# Altium schematic symbol library Blinkinlabs.SchLib: 259 symbols (part 3 of 3)
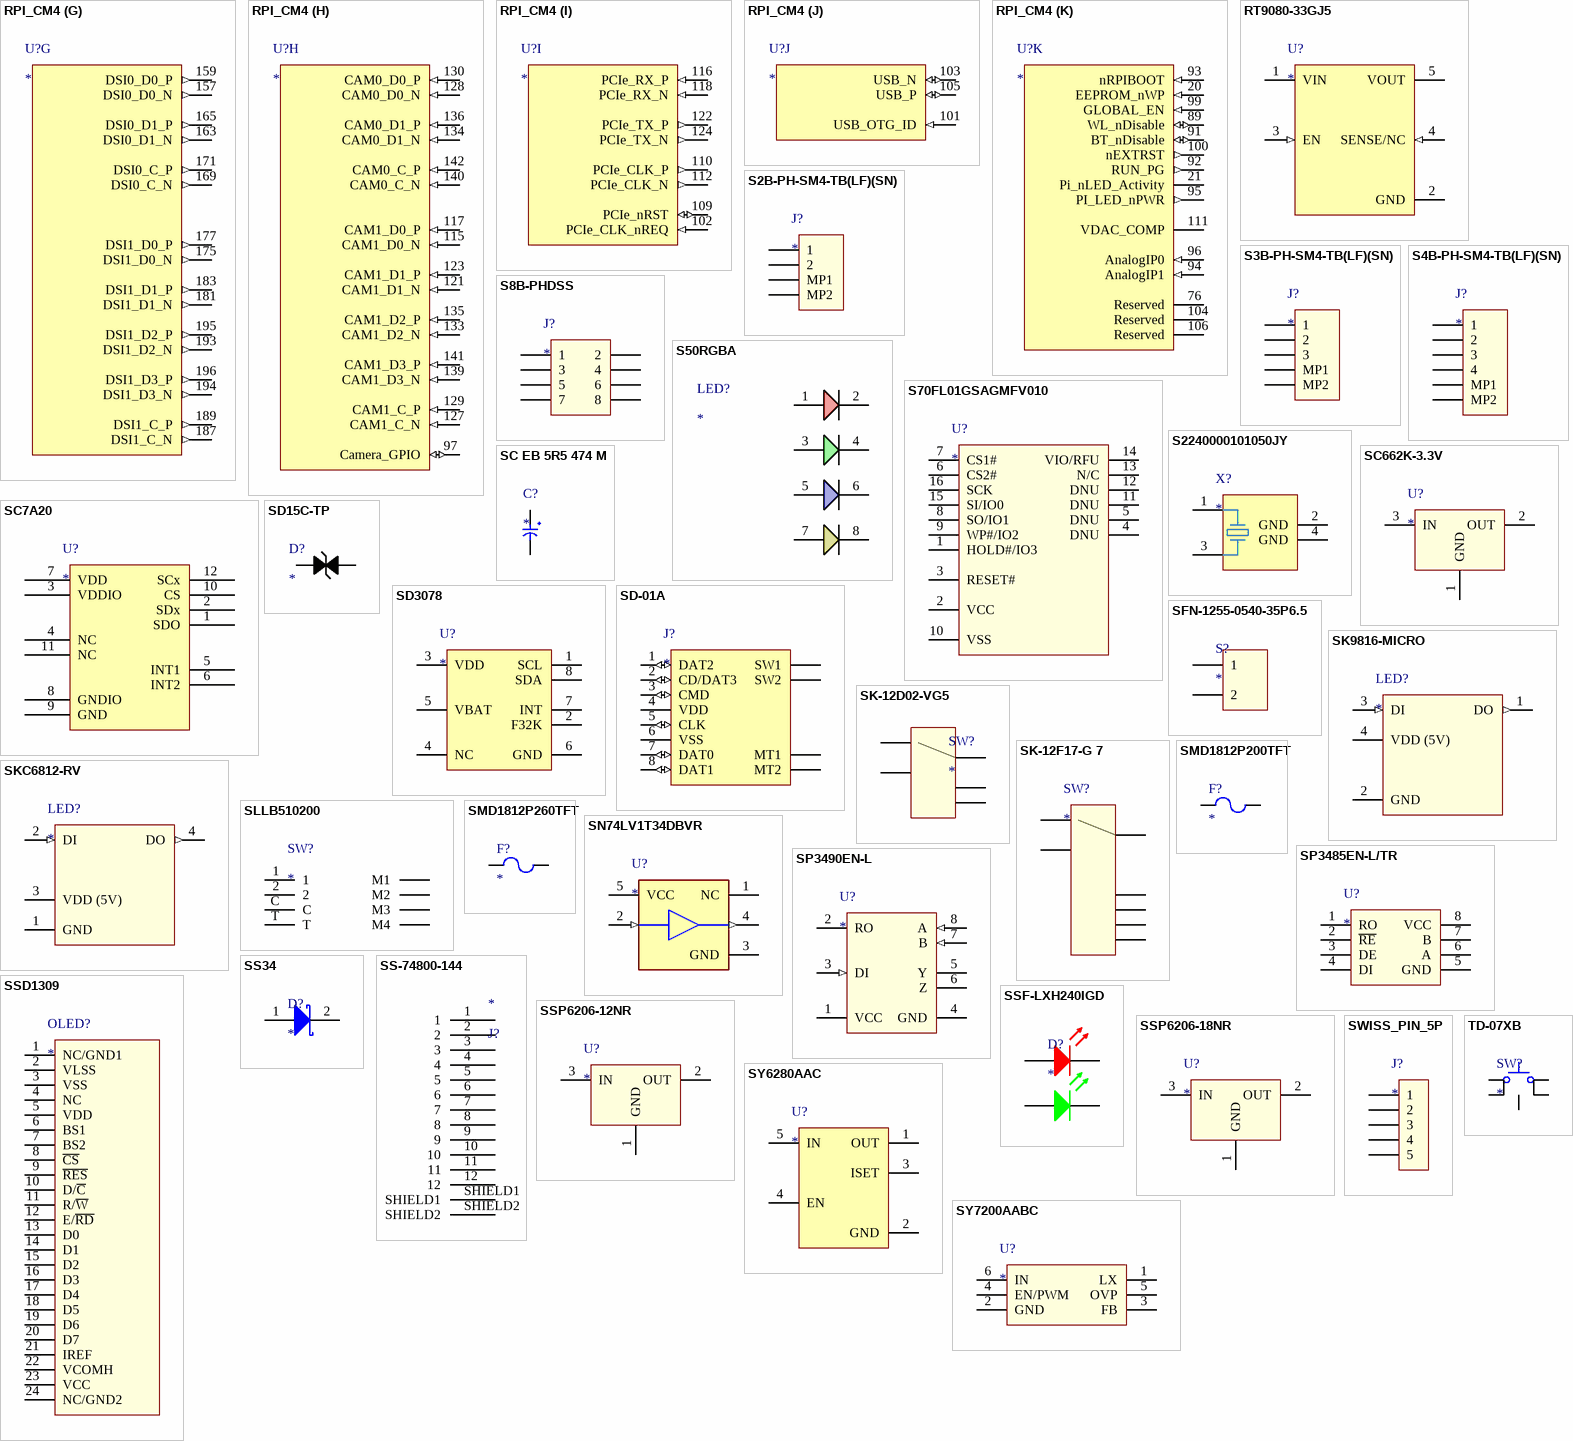
[diagram p11: symbols RPI_CM4 to TD-07XB]

## SP3490EN-L
designator U?
+3.3V Low Power Full-Duplex RS-485 Transceivers with 10Mbps Data Rate; Manufacturer: Exar; PartNumber: SP3490EN-L
footprint SOIC127P600X175-8N-2 (SOIC, 8-Leads, Body 4.90x3.90mm, Pitch 1.27mm, IPC Medium Density)
pins: 1 VCC, 2 RO, 3 DI (in), 4 GND, 5 Y, 6 Z, 7 B (in), 8 A (in)

## SS34
designator D?
3A, 40V Surface Mount Schottky Barrier Rectifiers; Manufacturer: Taiwan Semiconductor; PartNumber: SS34H; ComponentLink2Description: Datasheet; ComponentLink2URL: SS32 SERIES_L15.pdf
footprint SMC (DO-214AB)
pins: 1, 2

## SS-74800-144
designator *, comment J?
footprint SS-74800-144
pins: 1, 2, 3, 4, 5, 6, 7, 8, 9, 10, 11, 12, SHIELD1, SHIELD2

## SSD1309
designator OLED?
2.4" OLED display, 24-pin connector, SSD1309 driver IC
pins: 1 NC/GND1 (power), 2 VLSS, 3 VSS, 4 NC, 5 VDD, 6 BS1, 7 BS2, 8 ~{CS}, 9 ~{RES}, 10 D/~{C}, 11 R/~{W}, 12 E/~{RD}, 13 D0, 14 D1, 15 D2, 16 D3, 17 D4, 18 D5, 19 D6, 20 D7, 21 IREF, 22 VCOMH, 23 VCC, 24 NC/GND2

## SSF-LXH240IGD
designator D?
LED Circuit Board Indicator 2 High Green (x 1), Red (x 1) Diffused, Tinted 2.2V Green, 2V Red 25mA Green, 30mA Red; PartNumber: SSF-LXH240IGD; Manufacturer: Lumex Opto/Components Inc.; Digikey PartNumber: 67-2201-ND
footprint SSF-LXH240IGD (PCB DUAL TWR LED IND, RED/GREEN)
pins: 1, 2, 3, 4

## SSP6206-12NR
designator U?
300mA Low Power LDO; Manufacturer: Shanghai Siproin Microelectronics Co.; PartNumber: SSP6206-12NR
footprint SOT95P230X117-3N (SOT23, 3-Leads, Body 2.90x2.30mm, Pitch 0.95mm, IPC Medium Density)
pins: 1 GND (power), 2 OUT (power), 3 IN (power)

## SSP6206-18NR
designator U?
300mA Low Power LDO; Manufacturer: Shanghai Siproin Microelectronics Co.; PartNumber: SSP6206-18NR
footprint SOT95P230X117-3N (SOT23, 3-Leads, Body 2.90x2.30mm, Pitch 0.95mm, IPC Medium Density)
pins: 1 GND (power), 2 OUT (power), 3 IN (power)

## SWISS_PIN_5P
designator J?
.1" header with round machined pins; Manufacturer: Unknown/Generic; PartNumber: Unknown/Generic
footprint SWISS_PIN_5P
pins: 1, 2, 3, 4, 5

## SY6280AAC
designator U?
Low Loss Power Distribution Switch; Manufacturer: Silergy Corp; PartNumber: SY6280AAC; LCSC PartNumber: C55136
footprint SOT95P285X130-5N (SOT23, 5-Leads, Body 2.95x2.85mm, Pitch 0.95mm, IPC Medium Density)
pins: 1 OUT, 2 GND, 3 ISET, 4 EN, 5 IN

## SY7200AABC
designator U?
30V High Current Boost LED Driver; Manufacturer: Silergy Corp; PartNumber: SY7200AABC
footprint SOT95P280X140-6N (SOT23, 6-Leads, Body 2.95x2.80mm, Pitch 0.95mm, IPC Medium Density)
pins: 1 LX, 2 GND, 3 FB, 4 EN/PWM, 5 OVP, 6 IN

## TD-07XB
designator SW?
Tact Switch; Manufacturer: ShenZhen XieJia Electronics Co Ltd; PartNumber: TD-07XB
footprint TD-07XB (TACT SWITCH)
pins: 1, 2, 3, 4, 5

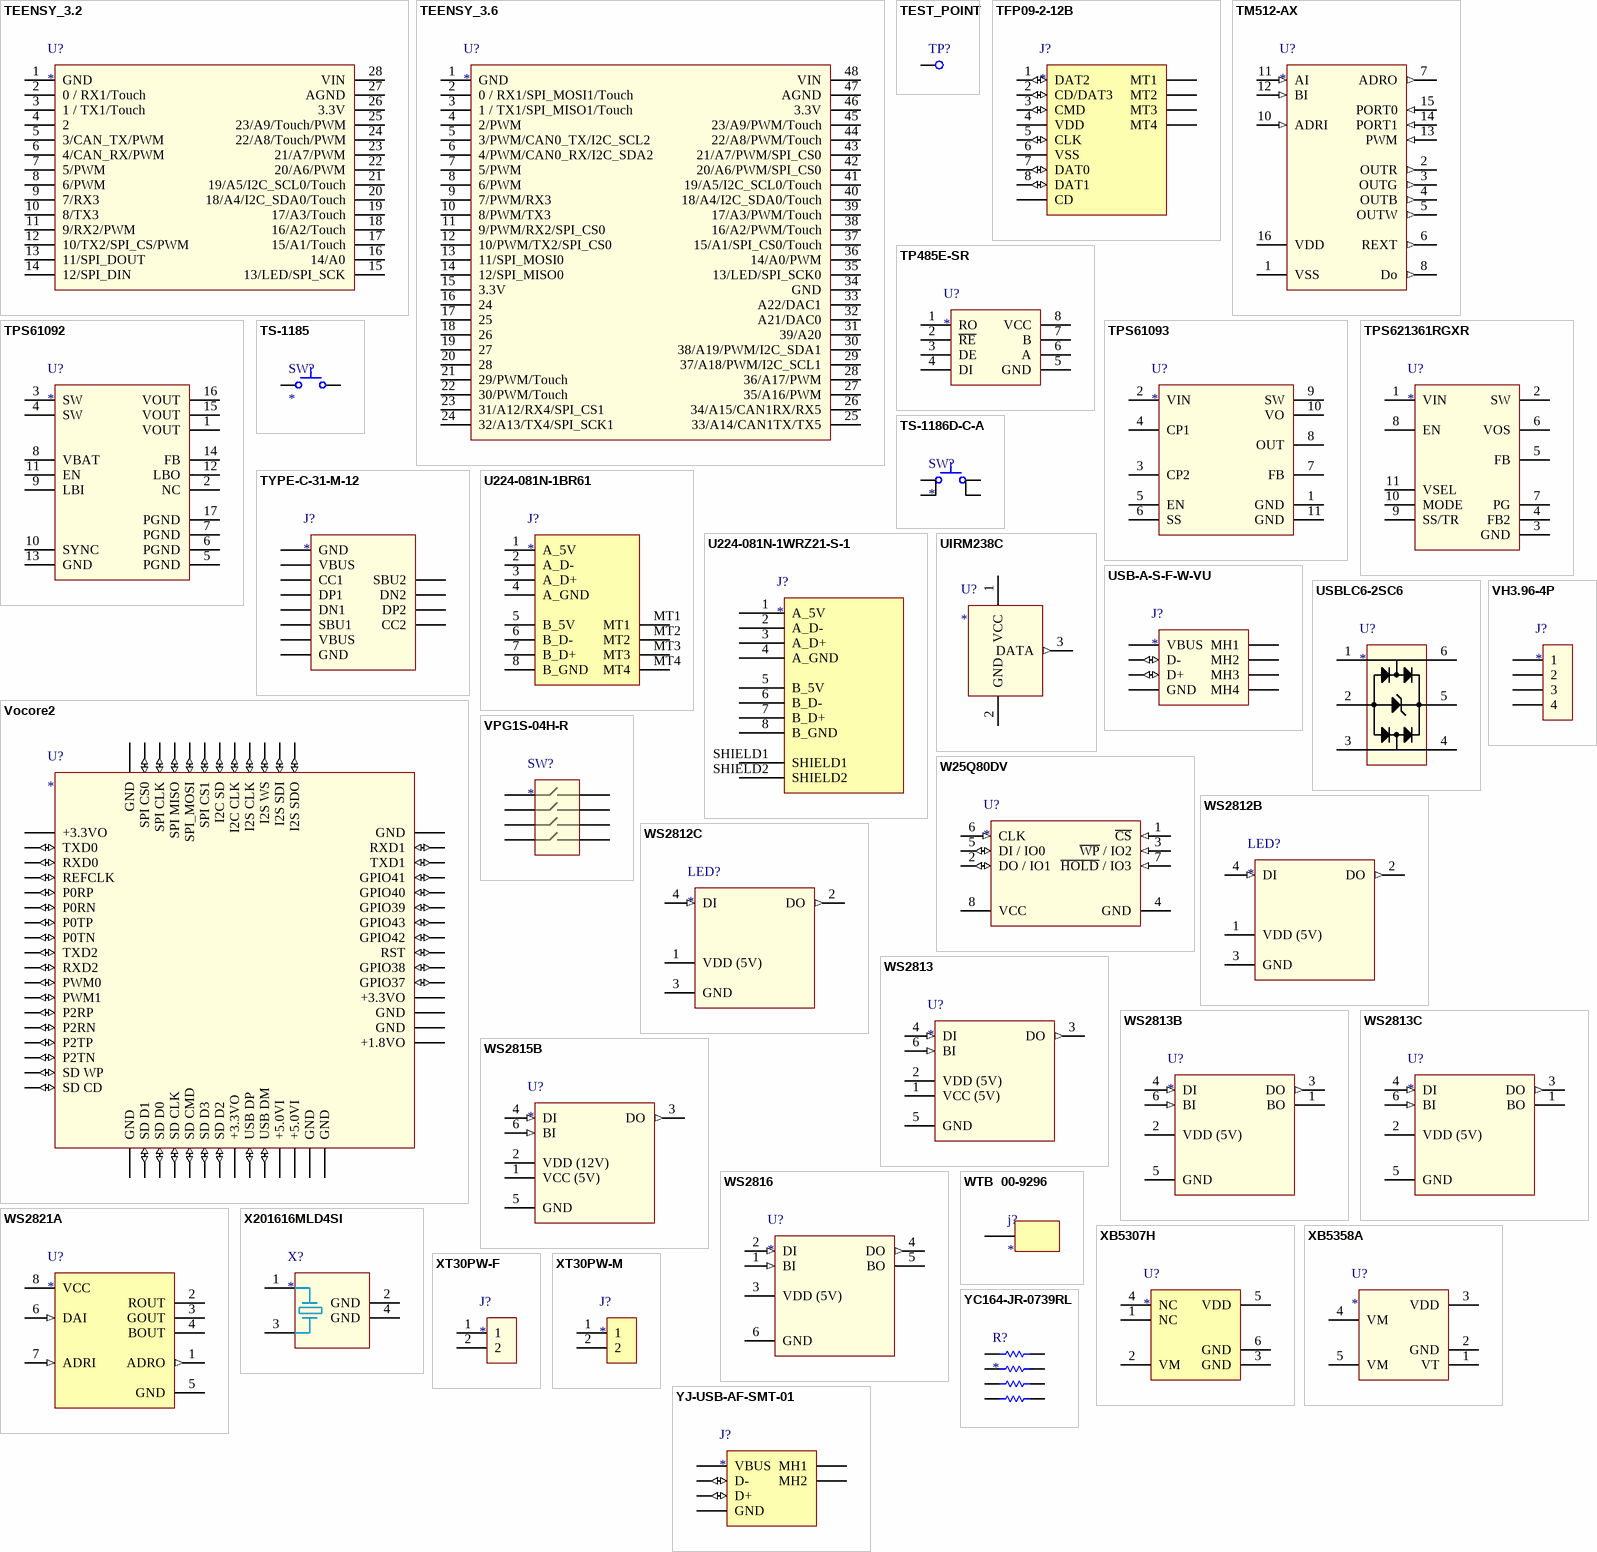
[diagram p9: symbols TEENSY_3.2 to YJ-USB-AF-SMT-01]

## TEENSY_3.2
designator U?
Teensy 3.2; Manufacturer: PJRC; PartNumber: TEENSY32
footprint TEENSY3.2_SMD (Teensy 3.2 header using SMD pins)
footprint TEENSY3.2-THRU_HOLE (Teensy 3.2 header using thru-hole pins)
pins: 1 GND (power), 2 0 / RX1/Touch, 3 1 / TX1/Touch, 4 2, 5 3/CAN_TX/PWM, 6 4/CAN_RX/PWM, 7 5/PWM, 8 6/PWM, 9 7/RX3, 10 8/TX3, 11 9/RX2/PWM, 12 10/TX2/SPI_CS/PWM, 13 11/SPI_DOUT, 14 12/SPI_DIN, 15 13/LED/SPI_SCK, 16 14/A0, 17 15/A1/Touch, 18 16/A2/Touch, 19 17/A3/Touch, 20 18/A4/I2C_SDA0/Touch, 21 19/A5/I2C_SCL0/Touch, 22 20/A6/PWM, 23 21/A7/PWM, 24 22/A8/Touch/PWM, 25 23/A9/Touch/PWM, 26 3.3V "250mA max", 27 AGND, 28 VIN "3.6 - 6V"

## TEENSY_3.6
designator U?
Teensy 3.6; Manufacturer: PJRC; PartNumber: TEENSY36
footprint TEENSY3.6-THRU_HOLE
pins: 1 GND (power), 2 0 / RX1/SPI_MOSI1/Touch, 3 1 / TX1/SPI_MISO1/Touch, 4 2/PWM, 5 3/PWM/CAN0_TX/I2C_SCL2, 6 4/PWM/CAN0_RX/I2C_SDA2, 7 5/PWM, 8 6/PWM, 9 7/PWM/RX3, 10 8/PWM/TX3, 11 9/PWM/RX2/SPI_CS0, 12 10/PWM/TX2/SPI_CS0, 13 11/SPI_MOSI0, 14 12/SPI_MISO0, 15 3.3V, 16 24, 17 25, 18 26, 19 27, 20 28, 21 29/PWM/Touch, 22 30/PWM/Touch, 23 31/A12/RX4/SPI_CS1, 24 32/A13/TX4/SPI_SCK1, 25 33/A14/CAN1TX/TX5, 26 34/A15/CAN1RX/RX5, 27 35/A16/PWM, 28 36/A17/PWM, 29 37/A18/PWM/I2C_SCL1, 30 38/A19/PWM/I2C_SDA1, 31 39/A20, 32 A21/DAC0, 33 A22/DAC1, 34 GND, 35 13/LED/SPI_SCK0, 36 14/A0/PWM, 37 15/A1/SPI_CS0/Touch, 38 16/A2/PWM/Touch, 39 17/A3/PWM/Touch, 40 18/A4/I2C_SDA0/Touch, 41 19/A5/I2C_SCL0/Touch, 42 20/A6/PWM/SPI_CS0, 43 21/A7/PWM/SPI_CS0, 44 22/A8/PWM/Touch, 45 23/A9/PWM/Touch, 46 3.3V "250mA max", 47 AGND, 48 VIN "3.6 - 6V"

## TEST_POINT
designator TP?  (value not drawn)  (no BOM)
Test point
footprint TP-SMD-1mm (Test point, round, 1mm, SMD)
pins: 1 TP

## TFP09-2-12B
designator J?
Micro SD Card Connector; Manufacturer: Unknown/Generic; PartNumber: TFP09-2-12B
footprint TFP09-2-12B (Micro SD Card Connector)
pins: 1 DAT2 (io), 2 CD/DAT3 (io), 3 CMD (io), 4 VDD (power), 5 CLK (io), 6 VSS (power), 7 DAT0 (io), 8 DAT1 (io), CD, MT1, MT2, MT3, MT4

## TM512-AX
designator U?
DMX512 decoding and driver IC; Manufacturer: Shenzhen Titan Micro Electronics Co; PartNumber: TM512-AX; ComponentLink2Description: Datasheet; ComponentLink2URL: TM512-AX.pdf
footprint SOIC127P600X170-16N (SOIC, 16-Leads, Body 9.13x3.95mm, Pitch 1.27mm, IPC Medium Density)
pins: 1 VSS (power) "Power negative", 2 OUTR (out) "PWM output port", 3 OUTG (out) "PWM output port", 4 OUTB (out) "PWM output port", 5 OUTW (out) "PWM output port", 6 REXT (out) "Constant current feedback, the ground resistance to adjust the output current size", 7 ADRO (out) "Address write code output", 8 Do (out) "Decoding forwarding channel, can control our 18 series and 19 series IC", 10 ADRI (in) "Address write code line input, built-in pull-up", 11 AI (in) "Difference signal, positive", 12 BI (in) "Difference signal, negative", 13 PWM (in) "Output polarity selection, the general floating, then the output after the polarity phase  Reverse, while the port refresh rate down to 500Hz", 14 PORT1 (in) "Field selection, built-in pull-down", 15 PORT0 (in) "Field selection, built-in pull-down", 16 VDD (power) "Power positive"

## TP485E-SR
designator U?
±18K  ESD  Protection,  Bus-Polarity  Correcting  RS-485  Transceiver, 250 kbps; Manufacturer: 3PEAK  INCORPORATED; PartNumber: TP485E-SR
footprint SOIC127P600X155-8N (Footprint not found)
pins: 1 RO, 2 ~{RE}, 3 DE, 4 DI, 5 GND, 6 A, 7 B, 8 VCC

## TPS61092
designator U?
Synchronous Boost Converter With 2-A Switch, fixed 5V output; Manufacturer: Texas Instruments; PartNumber: TPS61092; ComponentLink2Description: Datasheet; ComponentLink2URL: tps61090.pdf
footprint QFN65P400X400X100_HS-17N (QFN, 16-Leads, Body 4.00x4.00mm, Pitch 0.65mm, Thermal Pad 2.70x2.70mm, IPC Medium Density)
pins: 1 VOUT, 2 NC, 3 SW, 4 SW, 5 PGND, 6 PGND, 7 PGND, 8 VBAT, 9 LBI, 10 SYNC, 11 EN, 12 LBO, 13 GND, 14 FB, 15 VOUT, 16 VOUT, 17 PGND

## TPS61093
designator U?
3 Low-Input Boost Converter With Integrated Power Diode and / Input/Output Isolation; Manufacturer: Texas Instruments; PartNumber: TPS61093; ComponentLink2Description: Datasheet; ComponentLink2URL: tps61093.pdf
footprint SON50P250X80_HS-11N (SON, 10-Leads, Body 2.50x2.50mm, Pitch 0.50mm, Thermal Pad 2.00x1.09mm, IPC Medium Density)
pins: 1 GND, 2 VIN, 3 CP2, 4 CP1, 5 EN, 6 SS, 7 FB, 8 OUT, 9 SW, 10 VO, 11 GND

## TPS621361RGXR
designator U?
IC REG BUCK ADJUSTABLE 4A 11VQFN; Manufacturer: Texas Instruments; PartNumber: TPS621361RGXR; Digikey PartNumber: 296-50117-2-ND
footprint RGX0011A
pins: 1 VIN, 2 SW, 3 GND, 4 FB2, 5 FB, 6 VOS, 7 PG, 8 EN, 9 SS/TR, 10 MODE, 11 VSEL

## TS-1185
designator SW?
Tact Switch, 3x4mm, no alignment pin, turtle style; PartNumber: TS-1185; Manufacturer: XKB
footprint TS-1185 (3x4x2mm Tact Switch, no alignment pin)
pins: 1, 2

## TS-1186D-C-A
designator SW?
Tact Switch, side actuated; Manufacturer: XKB Industrial Precision Co; PartNumber: TS-1186D-C-A
footprint TS-1186D-C-A (Tact Switch, side actuated)
pins: 1, 2, 3, 4

## TYPE-C-31-M-12
designator J?
USB Connector TYPE-C-31-M-12 Female 16P SMD; Manufacturer: HRO; PartNumber: TYPE-C-31-M-12
footprint TYPE-C-31-M-12 (USB Connector TYPE-C-31-M-12 Female 16P SMD)
pins: A1/B12 GND, A4/B9 VBUS, A5 CC1, A6 DP1, A7 DN1, A8 SBU1, A9/B4 VBUS, A12/B1 GND, B5 CC2, B6 DP2, B7 DN2, B8 SBU2

## U224-081N-1BR61
designator J?
USB 2.0 2 Shrouded 4+4 Female Type-A Plugin USB Connectors; Manufacturer: XKB; PartNumber: U224-081N-1BR61; LCSC PartNumber: C908455
footprint U224-081N-1BR61 (USB 2.0 2 Shrouded 4+4 Female Type-A Plugin USB Connectors)
pins: 1 A_5V, 2 A_D-, 3 A_D+, 4 A_GND, 5 B_5V, 6 B_D-, 7 B_D+, 8 B_GND, MT1, MT2, MT3, MT4

## U224-081N-1WRZ21-S-1
designator J?
Manufacturer: XKB Connectivity; PartNumber: U224-081N-1WRZ21-S-1; LCSC PartNumber: C2880603
footprint U224-081N-1WRZ21-S-1
pins: 1 A_5V, 2 A_D-, 3 A_D+, 4 A_GND, 5 B_5V, 6 B_D-, 7 B_D+, 8 B_GND, SHIELD1, SHIELD2

## UIRM238C
designator U?
Infrared Receiver Module; PartNumber: UIRM238C; Manufacturer: 广州市晶彩光电器材厂; ComponentLink2Description: Datasheet; ComponentLink2URL: UIRM238C.doc
footprint UIRM238C (Infrared Receiver Module)
pins: 1 VCC (power), 2 GND (power), 3 DATA (out)

## USB-A-S-F-W-VU
designator J?
USB A, SINGLE, VERTICAL UPRIGHT THOUGH HOLE; Manufacturer: Samtec; PartNumber: USB-A-S-F-W-VU; ComponentLink2Description: Datasheet; ComponentLink2URL: usb-a-s-x-x-vu-xx-mkt.pdf
footprint USB-A-S-F-W-VU (USB A, SINGLE, VERTICAL UPRIGHT THOUGH HOLE)
pins: 1 VBUS (power) "USB 5V", 2 D- (io) "USB Data, negative", 3 D+ (io) "USB Data, positive", 4 GND (power) "Ground", 5 MH4 "Mounting Hole", 6 MH3 "Mounting Hole", 7 MH2 "Mounting Hole", 8 MH1 "Mounting Hole"

## USBLC6-2SC6
designator U?
Very low capacitance ESD protection; Manufacturer: STMicroelectronics; PartNumber: USBLC6-2SC6; ComponentLink2Description: Datasheet; ComponentLink2URL: USBLC6-2.pdf
footprint SOT95P280X145-6N (Footprint not found)
pins: 1 I/O1, 2 GND, 3 I/O2, 4 I/O2, 5, 6 I/O1

## VH3.96-4P
designator J?
VH3.96-4P. Chinese SMD variant, with top entry; PartNumber: Unknown/Generic; Manufacturer: Unknown/Generic
footprint VH3.96-4P
pins: 1, 2, 3, 4

## Vocore2
designator U?
Vocore2: The Coin-sized Linux Computer; Manufacturer: VoCore Studio; PartNumber: VoCore2
footprint VoCore2 (VoCore2: The Coin-sized Linux Computer)
pins: 16 I2S SDI (io) "GPIO0, I2S Data In", 17 I2S SDO (io) "GPIO1, I2S Data Out", 18 I2S WS (io) "GPIO2, I2S L/R Clock", 19 I2S CLK (io) "GPIO3, I2S Bit Clock", 20 I2C CLK (io) "GPIO4, I2C Clock", 21 I2C SD (io) "GPIO5, I2C Data", 24 SPI CS1 (io) "GPIO6, SPI Master Chip Select 1", 25 SPI CLK (io) "GPIO7, SPI Master Clock", 26 SPI MISO (io) "GPIO9, SPI Master In Slave Out", 27 SPI_MOSI (io) "GPIO8, SPI Master Out Slave In", 28 SPI CS0 (io) "GPIO10, SPI Master Chip Select 0", 29 REFCLK (io) "GPIO11, reference clock", 30 TXD0 (io) "GPIO12, UART0 Lite TXD", 31 RXD0 (io) "GPIO13, UART0 Lite RXD", 33 P0RP (io) "10/100 PHY Port #0 RXP", 34 P0RN (io) "10/100 PHY Port #0 RXN", 35 P0TP (io) "10/100 PHY Port #0 TXP", 36 P0TN (io) "10/100 PHY Port #0 TXN", 40 PWM0 (io) "10/100 PHY Port #1 RXN, GPIO17, UART2 Lite TXD, SPI Slave MOSI", 42 PWM1 (io) "10/100 PHY Port #1 RXP, GPIO16, UART2 Lite RXD, SPI Slave MISO", 43 TXD2 (io) "10/100 PHY Port #1 TXN, GPIO15, PWM Channel, SPI Slave Clock", 44 RXD2 (io) "10/100 PHY Port #1 TXP, GPIO14, PWM Channel, SPI Slave Chip Select", 45 P2RP (io) "10/100 PHY Port #2 RXP, GPIO18, PWM Channel", 46 P2RN (io) "10/100 PHY Port #2 RXN, GPIO19, PWM Channel", 47 P2TP (io) "10/100 PHY Port #2 TXP, GPIO20, PWM Channel", 48 P2TN (io) "10/100 PHY Port #2 TXN, GPIO21, PWM Channel", 49 SD WP (io) "GPIO22, 10/100 PHY Port #3 TXP, SDXC Write Protect", 50 SD CD (io) "GPIO23, 10/100 PHY Port #3 TXN, SDXC Card Detect", 51 SD D1 (io) "GPIO24, 10/100 PHY Port #3 RXP, SDXC Data Bit1", 52 SD D0 (io) "GPIO25, 10/100 PHY Port #3 RXN, SDXC Data Bit0", 54 SD CLK (io) "GPIO26, 10/100 PHY Port #4 RXP, SDXC Clock", 55 SD CMD (io) "GPIO27, 10/100 PHY Port #4 RXN, SDXC Command", 56 SD D3 (io) "GPIO28, 10/100 PHY Port #4 TXP, SDXC Data Bit3", 57 SD D2 (io) "GPIO29, 10/100 PHY Port #4 TXN, SDXC Data Bit2", 61 USB DP (io) "USB2.0 Data+", 62 USB DM (io) "USB2.0 Data-", 136 GPIO37 (io), 137 GPIO38 (io), 138 RST (io) "Reset, touch GND to reset", 139 GPIO39 (io) "GPIO39, JTAG Reset", 140 GPIO40 (io) "GPIO40, JTAG Clock", 141 GPIO41 (io) "GPIO41, JTAG TMS", 142 GPIO42 (io) "GPIO42, JTAG TDI", 143 GPIO43 (io) "GPIO43, JTAG TDO", 147 TXD1 (io) "GPIO13, UART1 Lite TXD", 148 RXD1 (io) "GPIO12, UART1 Lite RXD", +1.8VO_1 +1.8VO (power) "+1.8V output", +3.3VO_1 +3.3VO (power) "+3.3V output", +3.3VO_2 +3.3VO (power) "+3.3V output", +3.3VO_3 +3.3VO (power) "+3.3V output", +5.0VI_1 +5.0VI (power) "+5.0V input", +5.0VI_2 +5.0VI (power) "+5.0V input", GND_1 GND (power) "Groud", GND_2 GND (power), GND_3 GND (power) "Ground", GND_4 GND (power) "Ground", GND_5 GND (power) "Ground", GND_6 GND (power) "Ground", GND_7 GND (power) "Ground"

## VPG1S-04H-R
designator SW?
DIP SWITCH, 4P, Thru-Hole; Manufacturer: CIXI CITY DONGWEI ELECTRONICS CO.,LTD; PartNumber: VPG1S-04H-R
footprint VPG1S-04H-R (DIP SWITCH, 4P, Thru-Hole)
pins: 1, 2, 3, 4, 5, 6, 7, 8

## W25Q80DV
designator U?
3V 8Mbit Serial Flash Memory with Dual and Quad SPI; Manufacturer: Winbond; PartNumber: W25Q80DVUXIE; ComponentLink2Description: Datasheet; ComponentLink2URL: w25x20cl_revf 20150806.pdf
footprint USON 2x3 (PG-USON-8-1-Package_Overview.pdf)
pins: 1 ~{CS} (in) "Chip Select Input", 2 DO / IO1 (io) "Data Input / Output", 3 ~{WP} / IO2 (in) "Write Protect Input", 4 GND (power) "Ground", 5 DI / IO0 (io) "Data Input / Output", 6 CLK (in) "Serial Clock Input", 7 ~{HOLD} / IO3 (in) "Hold Input", 8 VCC (power) "Power Supply"

## WS2812B
designator LED?
WS2812B is a intelligent control LED light source that the control circuit and RGB chip are integrated in a package of 5050 components.; Manufacturer: WorldSemi; PartNumber: WS2812B
footprint WS2812B (5V digital LED in 5050 package)
pins: 1 VDD (5V) (power) "Regulated 5V output", 2 DO (out) "Data out", 3 GND (power) "Ground", 4 DI (in) "Data input"

## WS2812C
designator LED?
WS2812C is a intelligent control LED light source that the control circuit and RGB chip are integrated in a package of 5050 components.; Manufacturer: WorldSemi; PartNumber: WS2812C
footprint WS2812B (5V digital LED in 5050 package)
pins: 1 VDD (5V) (power) "Regulated 5V output", 2 DO (out) "Data out", 3 GND (power) "Ground", 4 DI (in) "Data input"

## WS2813
designator U?
5V addressable LED w/redundant data; Manufacturer: World Semi; PartNumber: WS2813
footprint WS2813B
pins: 1 VCC (5V) (power) "LED Power supply", 2 VDD (5V) (power) "LED Power supply", 3 DO (out) "Data out", 4 DI (in) "Data input", 5 GND (power) "Ground", 6 BI (in) "Backup input"

## WS2813B
designator U?
5V addressable LED w/redundant data; Manufacturer: World Semi; PartNumber: WS2813B_V5
footprint WS2813B
pins: 1 BO "Backup data signal output", 2 VDD (5V) (power) "LED Power Supply, connect to 5V", 3 DO (out) "Control data signal output", 4 DI (in) "Control data signal input", 5 GND (power) "Data & Power Grounding", 6 BI (in) "Backup Control data signal input"

## WS2813C
designator U?
5V addressable LED w/redundant data; Manufacturer: World Semi; PartNumber: WS2813C_V?
footprint WS2813B
pins: 1 BO "Backup data signal output", 2 VDD (5V) (power) "LED Power Supply, connect to 5V", 3 DO (out) "Control data signal output", 4 DI (in) "Control data signal input", 5 GND (power) "Data & Power Grounding", 6 BI (in) "Backup Control data signal input"

## WS2815B
designator U?
12V addressable LED; Manufacturer: World Semi; PartNumber: WS2815B
footprint WS2813B
pins: 1 VCC (5V) (power) "Regulated 5V output", 2 VDD (12V) (power) "12V input", 3 DO (out) "Data out", 4 DI (in) "Data input", 5 GND (power) "Ground", 6 BI (in) "Backup input"

## WS2816
designator U?
16-bit, 5V addressable LED w/redundant data; Manufacturer: World Semi; PartNumber: WS2816
footprint WS2816
pins: 1 BI (in) "Backup Control data signal input", 2 DI (in) "Control data signal input", 3 VDD (5V) (power) "LED Power Supply, connect to 5V", 4 DO (out) "Control data signal output", 5 BO "Backup data signal output", 6 GND (power) "Data & Power Grounding"

## WS2821A
designator U?
Parallel-Single wire-Three channels 256 Gray level Constant current LED driven IC; Manufacturer: World Semi; PartNumber: WS2821A
footprint SOP127P600X175-8N2 (SOP, 8-Leads, Body 4.90x3.90mm, Pitch 1.27mm, IPC Medium Density)
pins: 1 ADRO (out), 2 ROUT (oc), 3 GOUT (oc), 4 BOUT (oc), 5 GND (power), 6 DAI (in), 7 ADRI (in), 8 VCC (power)

## WTB  00-9296
designator j?
009296001503906; Manufacturer: AVX Corporation; PartNumber: 009296001503906; Digikey PartNumber: 478-9314-2-ND
footprint WTB 00-9296
pins: 1, 2

## X201616MLD4SI
designator X?
16 MHz 2016 Crystal resonator; Manufacturer: Yangxing Tech; PartNumber: X201616MLD4SI; ComponentLink2Description: Datasheet; ComponentLink2URL: Yangxing-Tech-X201616MLD4SI_C108154.pdf
footprint YSX211SL (YXC crystal, 2.05x1.65x.5mm, 16-54MHz)
pins: 1 XTAL1, 2 GND (power) "Ground", 3 XTAL2, 4 GND (power) "Ground"

## XB5307H
designator U?
Single-cell Li-ion/Li-polymer rechargeable battery pack protection chip w2.90V cutorff; Manufacturer: XySemi; PartNumber: XB5307H; LCSC PartNumber: C154942
footprint SOT95P280X125-6N-3 (SOT23, 6-Leads, Body 2.92x2.80mm, Pitch 0.95mm, IPC Medium Density)
pins: 1 NC, 2 VM "Ngative terminal of the battery pack. Internal FET switch connected to GND", 3 GND, 4 NC, 5 VDD, 6 GND

## XB5358A
designator U?
One Cell Lithium-ion/Polymer Battery Protection IC; Manufacturer: xysemi(赛芯微); PartNumber: XB5358A; LCSC PartNumber: C80219
footprint SOT95P280X125-5N (SOT23, 5-Leads, Body 2.92x2.80mm, Pitch 0.95mm, IPC Medium Density)
pins: 1 VT, 2 GND, 3 VDD, 4 VM, 5 VM

## XT30PW-F
designator J?
Socket; DC supply; XT30; female; PIN:2; on PCBs; THT; Colour: yellow; Manufacturer: AMASS; PartNumber: XT30PW-F
footprint XT30PW-F (Socket; DC supply; XT30; female; PIN:2; on PCBs; THT; Colour: yellow)
pins: 1, 2

## XT30PW-M
designator J?
Socket; DC supply; XT30; male; PIN:2; on PCBs; THT; Colour: yellow; Manufacturer: AMASS; PartNumber: XT30PW-M
footprint XT30PW-m (Socket; DC supply; XT30; male; PIN:2; on PCBs; THT; Colour: yellow)
pins: 1, 2

## YC164-JR-0739RL
designator R?
Resistor Pack, 39ohm, 5%; Manufacturer: Yageo; PartNumber: YC164-JR-0739RL; ComponentLink2Description: Datasheet; ComponentLink2URL: YC102-358,TC122-164_Series_DS.pdf
footprint CAC-80P319X150-8N (Chip Array, ConvexE, 8-Leads, Pitch 0.80mm,  Body 3.20x1.50mm,  IPC Medium Density)
pins: 1, 2, 3, 4, 5, 6, 7, 8

## YJ-USB-AF-SMT-01
designator J?
USB A connector, SMD; PartNumber: YJ-USB-AF-SMT-01; Manufacturer: Unknown/Generic
footprint YJ-USB-AF-SMT-01 (USB A connector, SMD)
pins: 1 VBUS (power) "USB 5V", 2 D- (io) "USB Data, negative", 3 D+ (io) "USB Data, positive", 4 GND (power) "Ground", 5 MH2 "Mounting Hole", 6 MH1 "Mounting Hole"